# EAGLE library part MINIPROG3_CONN (library CYP)
cypress miniprog 3 connector
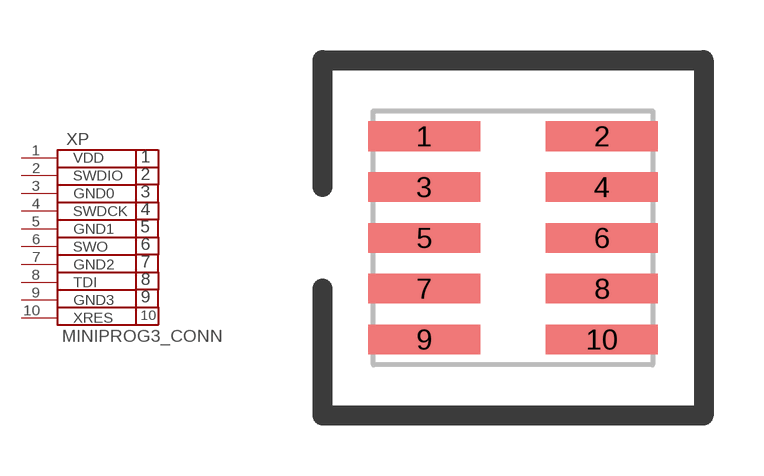
[diagram p3: symbol with the pads of FTSH-105-01-L-DV-K; footprint FTSH-105-01-L-DV-K]

Designator prefix XP

## MINIPROG3_CONN  [FTSH-105-01-L-DV-K]
1  VDD
2  SWDIO
3  GND0
4  SWDCK
5  GND1
6  SWO
7  GND2
8  TDI
9  GND3
10  XRES

## Footprint FTSH-105-01-L-DV-K (pad centres in mm)
smd 2.8 x 0.74: 1 -1.905,1.905; 2 2.54,1.905; 3 -1.905,0.635; 4 2.54,0.635; 5 -1.905,-0.635; 6 2.54,-0.635; 7 -1.905,-1.905; 8 2.54,-1.905; 9 -1.905,-3.175; 10 2.54,-3.175